# Altium footprint library PCB - LEADED - DIP - 18-DIP.PcbLib: 1 footprints
Each footprint in its own frame and in the unit in brackets; x right, y up, seen from the top. Pads: shape width x height; smd on the part's side, far side on the other; paste and mask are expansions set on the pad; w line width, h text height; cw(c..) or ccw(c..) is an arc to the next point about the centre after c.
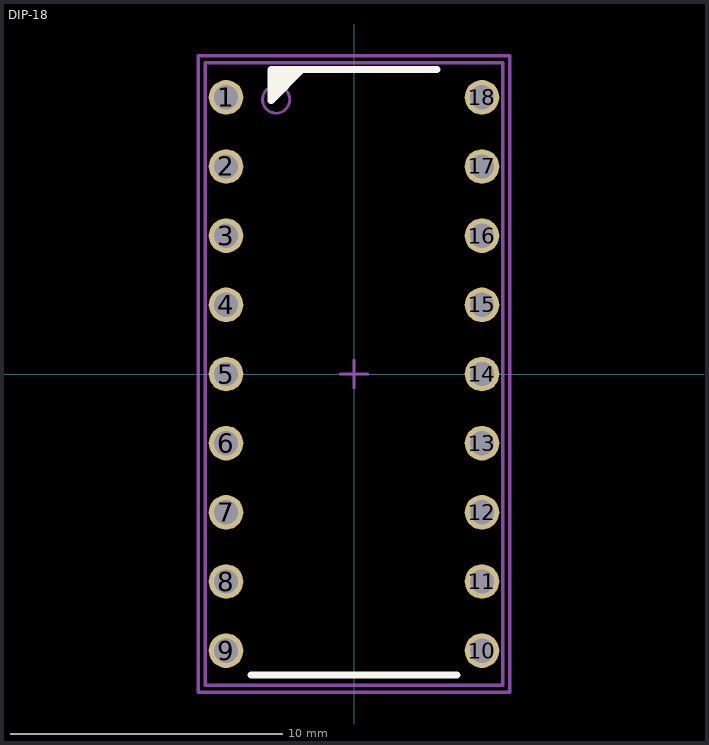
[diagram p0: the footprint, top view; thin cyan lines are the x and y axes]

## DIP-18 [mil]
pads (18):
  round 50 hole 35 mask+3.94: 1(-185,400) 2(-185,300) 3(-185,200) 4(-185,100) 5(-185,0) 6(-185,-100) 7(-185,-200) 8(-185,-300) 9(-185,-400) 10(185,-400) 11(185,-300) 12(185,-200) 13(185,-100) 14(185,0) 15(185,100) 16(185,200) 17(185,300) 18(185,400)
Top Overlay:
  region: -120,395 -120,440 -75,440
  lines w10: -149.02,-435 149.02,-435 ; -75,440 -120,395 -120,440 120,440
Mechanical 13:
  circle w3.94: c-112.62,396.81 r19.68
  lines w5: -215,-450 -215,450 215,450 215,-450 -215,-450
Mechanical 15:
  lines w3.94: -19.68,0 19.69,0 ; 0,-19.68 0,19.68
  lines w5: -225,-460 -225,460 225,460 225,-460 -225,-460
3D body "DIP-18.STEP": height 230, standoff -130, extent -215,-450 215,450